# Altium integrated library Thumb Joystick.IntLib: 1 symbol
Pins are listed as number, name and electrical type; pins without a type are passive.

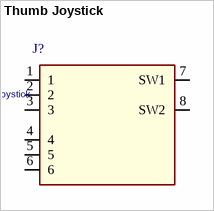
[diagram p0: symbol Thumb Joystick]

## Thumb Joystick
designator J?
PDF: *; ID: Thumb Joystick; PRICE: 3.95; BUY_LINK: https://www.sparkfun.com/products/9032
footprint PCBComponent_1
pins: 1, 2, 3, 4, 5, 6, 7 SW1, 8 SW2